# Altium footprint library Kingbright.PcbLib: 1 footprints
Each footprint in its own frame and in the unit in brackets; x right, y up, seen from the top. Pads: shape width x height; smd on the part's side, far side on the other; paste and mask are expansions set on the pad; w line width, h text height; cw(c..) or ccw(c..) is an arc to the next point about the centre after c.
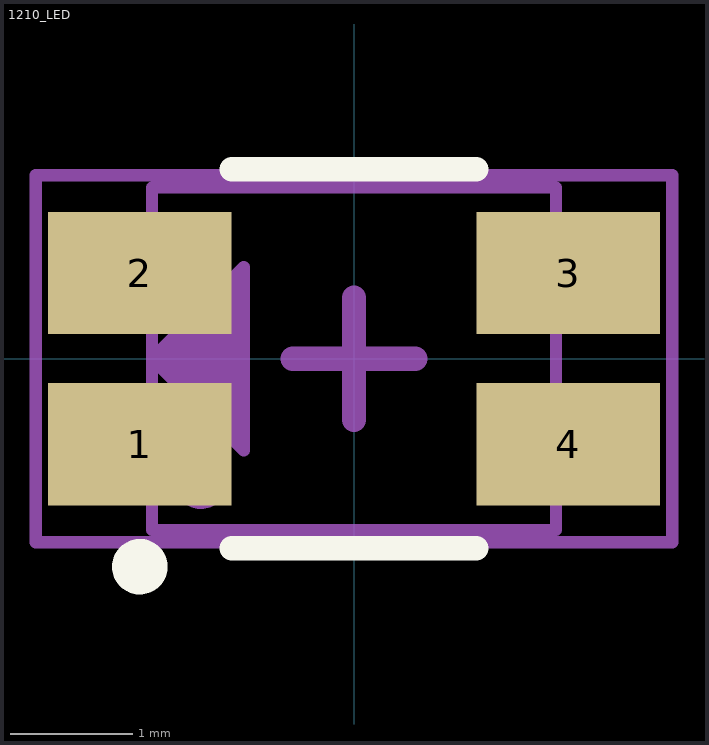
[diagram p0: the footprint, top view; thin cyan lines are the x and y axes]

## 1210_LED [mm] "LED 1210 (4-SMD)"
pads (4):
  rect 1.5x1 smd paste-10 mask+0.07: 1(-1.75,-0.7) 2(-1.75,0.7) 3(1.75,0.7) 4(1.75,-0.7)
Top Overlay:
  circle w0.254: c-1.75,-1.7 r0.1
  lines w0.2: -1,-1.55 1,-1.55 ; -1,1.55 1,1.55
Top Paste:
  region: 1.592,-0.7 1.754,-0.758 1.916,-0.312 1.755,-0.253
  region: 1.754,-0.645 1.592,-0.704 1.755,-1.15 1.916,-1.091
  region: 2.455,-0.253 1.755,-0.253 1.755,-1.15 2.455,-1.15
  region: 1.592,0.7 1.754,0.642 1.916,1.088 1.755,1.147
  region: 1.754,0.755 1.592,0.696 1.755,0.25 1.916,0.309
  region: 2.455,1.147 1.755,1.147 1.755,0.25 2.455,0.25
  region: -1.592,0.7 -1.754,0.758 -1.916,0.312 -1.755,0.253
  region: -1.754,0.645 -1.592,0.704 -1.755,1.15 -1.916,1.091
  rectangle: -2.455,0.253 -1.755,1.15
  region: -1.592,-0.7 -1.754,-0.642 -1.916,-1.088 -1.755,-1.147
  region: -1.754,-0.755 -1.592,-0.696 -1.755,-0.25 -1.916,-0.309
  rectangle: -2.455,-1.147 -1.755,-0.25
Top 3D Body:
  circle w0.254: c-1.25,-1 r0.1
  region: -1.65,0 -0.9,0.75 -0.9,-0.75
  lines w0.1: -1.65,-1.4 -1.65,1.4 1.65,1.4 1.65,-1.4 -1.65,-1.4 ; -1.65,0 -0.9,0.75 -0.9,-0.75 -1.65,0
Top Assembly:
  lines w0.1: -2.6,-1.5 -2.6,1.5 2.6,1.5 2.6,-1.5 -2.6,-1.5
  lines w0.2: -0.5,0 0.5,0 ; 0,-0.5 0,0.5
3D body "Kingbright_APB3227.STEP": height 1.15, standoff 0.05, extent -1.6,-1.35 1.6,1.35